# Altium schematic symbol library MyPCB_Homework.SchLib: 66 symbols
Pins are listed as number, name and electrical type; pins without a type are passive.

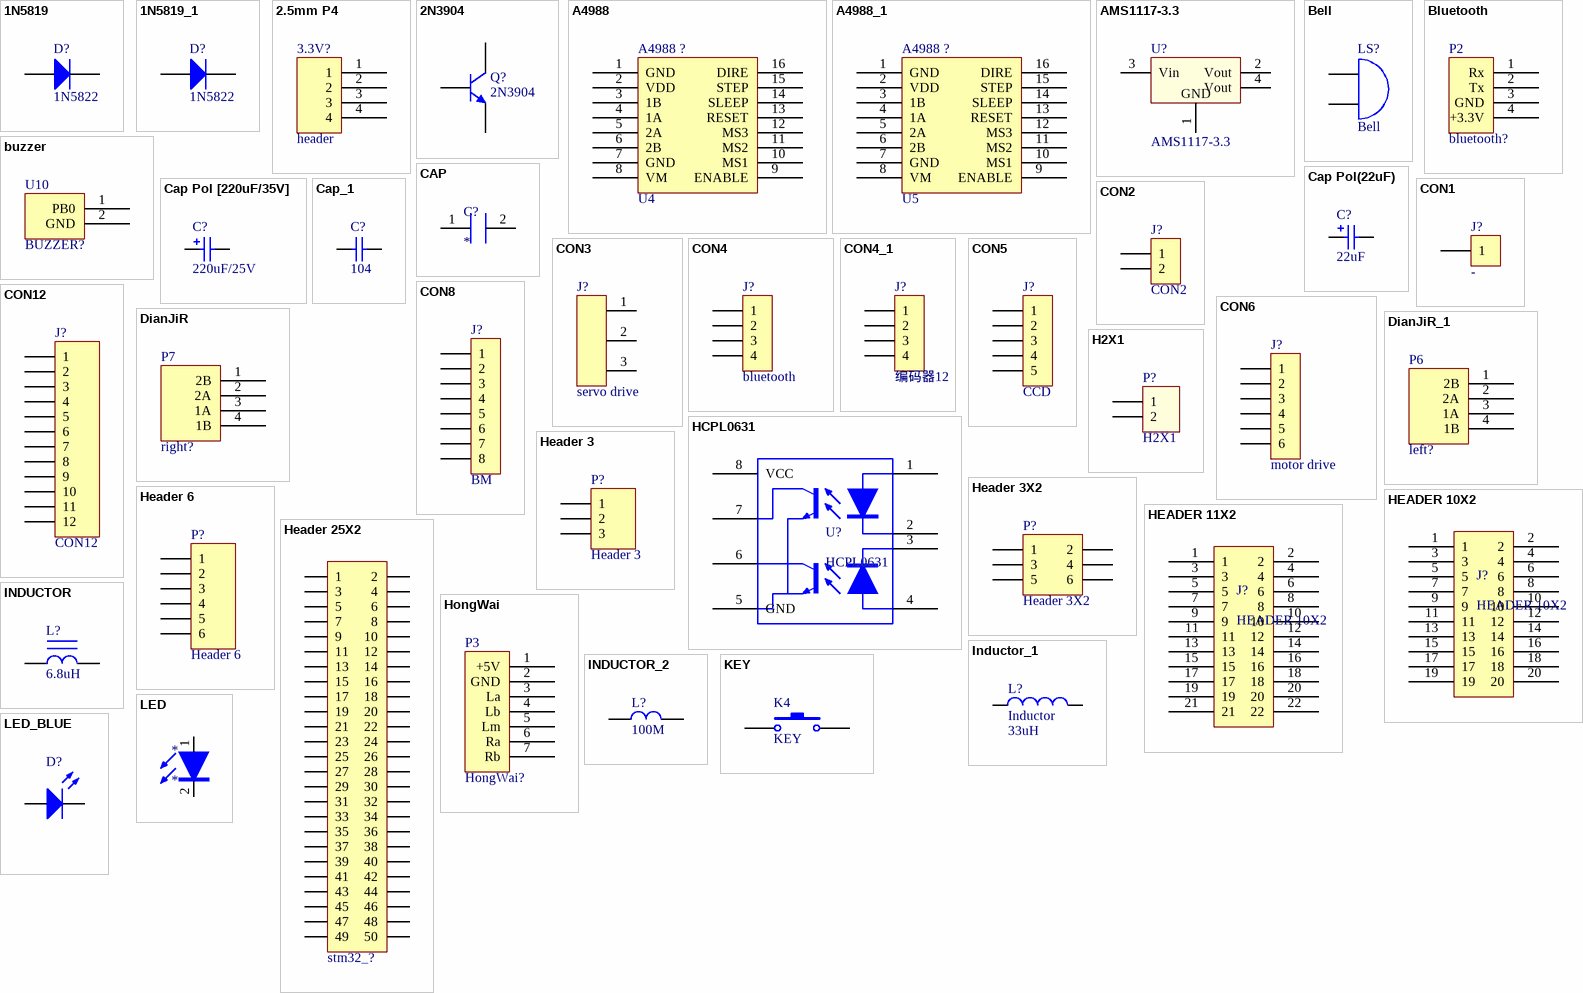
[diagram p0: symbols 1N5819 to LED_BLUE]

## 1N5819
designator D?, comment 1N5822
footprint SS14
footprint Diode
pins: 1, 2

## 1N5819_1
designator D?, comment 1N5822
二极管
footprint SS14
footprint Diode
pins: 1, 2

## 2.5mm P4
designator 3.3V?, comment header
footprint bluetooth
pins: 1, 2, 3, 4

## 2N3904
designator Q?
NPN General Purpose Amplifier; Published: 8-Jun-2000; LatestRevisionDate: 15-Jan-2003; LatestRevisionNote: PCB Footprint 'BCY-W3/D4.7' replaced; DatasheetDocument: 1997; PackageDocument: Sep-1998; PackageReference: TO-92A; Publisher: Altium Limited; Code_JEDEC: TO-92A; ComponentLink1Description: Manufacturer Link; ComponentLink1URL: http://www.fairchildsemi.com/; ComponentLink2Description: Datasheet; ComponentLink2URL: http://www.fairchildsemi.com/ds/2N%2F2N3904.pdf
footprint TO-92A (TO, Flat Index; 3 In-Line, Axial Leads; Body Dia. 4.5mm; Leads 0.51 x 0.48 mm (max))
simulation model 2N3904 (NPN)
signal-integrity model 2N3904
pins: B, C, E

## A4988
designator A4988 ?, comment U4
footprint A4988
pins: 1 GND, 2 VDD, 3 1B, 4 1A, 5 2A, 6 2B, 7 GND, 8 VM, 9 ENABLE, 10 MS1, 11 MS2, 12 MS3, 13 RESET, 14 SLEEP, 15 STEP, 16 DIRE

## A4988_1
designator A4988 ?, comment U5
footprint A4988
pins: 1 GND, 2 VDD, 3 1B, 4 1A, 5 2A, 6 2B, 7 GND, 8 VM, 9 ENABLE, 10 MS1, 11 MS2, 12 MS3, 13 RESET, 14 SLEEP, 15 STEP, 16 DIRE

## AMS1117-3.3
designator U?
footprint SOT-223
pins: 1 GND, 2 Vout, 3 Vin, 4 Vout

## Bell
designator LS?
Electrical Bell; Published: 24-Mar-1999; LatestRevisionDate: 17-Jul-2002; LatestRevisionNote: Re-released for DXP Platform.; PackageReference: PIN2; Publisher: Altium Limited
footprint 蜂鸣器侧装
pins: 1 A, 2 B

## Bluetooth
designator bluetooth?, comment P2
footprint bluetooth
pins: 1 Rx, 2 Tx, 3 GND, 4 +3.3V

## buzzer
designator BUZZER?, comment U10
footprint buzzer
pins: 1 PB0, 2 GND

## CAP
designator C?
电容
pins: 1, 2

## Cap Pol [220uF/35V]
designator C?, comment 220uF/25V
220uF/35V
footprint CAP POL [25V]
pins: 1, 2

## Cap Pol(22uF)
designator C?  (value not drawn)
footprint CAP POL [16V]
footprint CAP[1210]
footprint CAP[1206]
footprint CAP[6332]
footprint CAP[7432]
pins: 1, 2
text: 22uF

## Cap_1
designator C?, comment Cap  (value not drawn)
footprint 0805C
pins: 1, 2
text: 104

## CON1
designator J?, comment -
Connector
footprint 单面焊盘2*3MM_1PIN
footprint 单面焊盘2*3MM_1PIN
footprint 单面焊盘2*3MM_1PIN
pins: 1
2 alternate drawings of the same symbol

## CON2
designator J?
Connector
footprint 2PIN杜邦插座_1.27mm
pins: 1, 2
2 alternate drawings of the same symbol

## CON3
designator J?, comment servo drive
SOCKET
footprint HDR1X3 (Connector; Header; 3 Position)
pins: 1, 2, 3

## CON4
designator J?, comment bluetooth
Connector
footprint HDR1X4 (Connector; Header; 4 Position)
pins: 1, 2, 3, 4
2 alternate drawings of the same symbol

## CON4_1
designator J?, comment 编码器12
Connector
footprint SIP4
footprint XH2.54-4P
footprint XH2.54-4P - tiepian
pins: 1, 2, 3, 4

## CON5
designator J?, comment CCD
Connector
footprint HDR1X5 (Connector; Header; 5 Position)
pins: 1, 2, 3, 4, 5
2 alternate drawings of the same symbol

## CON6
designator J?, comment motor drive
Connector
footprint HDR2X3 (Connector; Header; 3x2 Position)
pins: 1, 2, 3, 4, 5, 6
2 alternate drawings of the same symbol

## CON8
designator J?, comment BM
Connector
footprint HDR2X4 (Connector; Header; 4x2 Position)
pins: 1, 2, 3, 4, 5, 6, 7, 8
2 alternate drawings of the same symbol

## CON12
designator J?
Connector
footprint HDR2X6 (Connector; Header; 6x2 Position)
pins: 1, 2, 3, 4, 5, 6, 7, 8, 9, 10, 11, 12
2 alternate drawings of the same symbol

## DianJiR
designator right?, comment P7
footprint dianji
pins: 1 2B, 2 2A, 3 1A, 4 1B

## DianJiR_1
designator left?, comment P6
footprint dianji
pins: 1 2B, 2 2A, 3 1A, 4 1B

## H2X1
designator P?
footprint H2.54-1X2
footprint 电源端子
pins: 1, 2

## HCPL0631
designator U?
光耦
pins: 1, 2, 3, 4, 5 GND, 6, 7, 8 VCC

## Header 3
designator P?
Header, 3-Pin; LatestRevisionDate: 17-Jul-2002; LatestRevisionNote: Re-released for DXP Platform.; Publisher: Altium Limited
footprint HDR1X3 (Connector; Header; 3 Position)
signal-integrity model Connector
pins: 1, 2, 3

## Header 3X2
designator P?
Header, 3-Pin, Dual row; LatestRevisionDate: 17-Jul-2002; LatestRevisionNote: Re-released for DXP Platform.; Publisher: Altium Limited
footprint HDR2X3 (Connector; Header; 3x2 Position)
signal-integrity model Connector
pins: 1, 2, 3, 4, 5, 6

## Header 6
designator P?
Header, 6-Pin; LatestRevisionDate: 17-Jul-2002; LatestRevisionNote: Re-released for DXP Platform.; Publisher: Altium Limited
footprint HDR1X6 (Connector; Header; 6 Position)
signal-integrity model Connector
pins: 1, 2, 3, 4, 5, 6

## HEADER 10X2
designator J?
排针
pins: 1, 2, 3, 4, 5, 6, 7, 8, 9, 10, 11, 12, 13, 14, 15, 16, 17, 18, 19, 20

## HEADER 11X2
designator J?, comment HEADER 10X2
排针
pins: 1, 2, 3, 4, 5, 6, 7, 8, 9, 10, 11, 12, 13, 14, 15, 16, 17, 18, 19, 20, 21, 22

## Header 25X2
designator stm32_?, comment Header 2X25  (value not drawn)
25*2P接插件; BOM名称: 20*2P接插件; 版权归属: 源创客; 学习资源: www.ooocke.com
footprint IDC2.54-LI-2x25P (50P简易牛角座)
footprint HDR2.54-LI-2x25P (双排排针，25x2脚)
pins: 1, 2, 3, 4, 5, 6, 7, 8, 9, 10, 11, 12, 13, 14, 15, 16, 17, 18, 19, 20, 21, 22, 23, 24, 25, 26, 27, 28, 29, 30, 31, 32, 33, 34, 35, 36, 37, 38, 39, 40, 41, 42, 43, 44, 45, 46, 47, 48, 49, 50

## HongWai
designator HongWai?, comment P3
footprint HONGWAI
pins: 1 +5V, 2 GND, 3 La, 4 Lb, 5 Lm, 6 Ra, 7 Rb

## INDUCTOR
designator L?, comment 6.8uH
电感
footprint 0805_Res
footprint CDRH3D16_4.2*1.8
footprint 3528电感
footprint 0603_Res
footprint CD75_7.8*5mm
footprint CDRH5D28_6*2.8mm
footprint CD32_3.5*3.0*2.3mm
footprint CDRH4D18_5*2MM
pins: 1, 2

## Inductor_1
designator L?, comment Inductor
footprint Inductor_T10uH
footprint INDC1608L (Chip Inductor, Body 1.6x0.8mm, IPC High Density)
footprint L-CD31
footprint L-CD32
footprint L-CD42
footprint L-CD43
footprint L-CD52
footprint L-CD53
footprint L-CD54
footprint L-CD73
footprint L-CD75
footprint L-CD104
pins: 1, 2
text: 33uH

## INDUCTOR_2
designator L?, comment 100M
footprint 0603_Res
footprint 0805_Res
pins: 1, 2

## KEY
designator K4
footprint KEl
pins: 1, 2

## LED
designator *
pins: 1, 2

## LED_BLUE
designator D?
LED_BLUE
footprint 0805LED1
pins: 1 A, 2 K

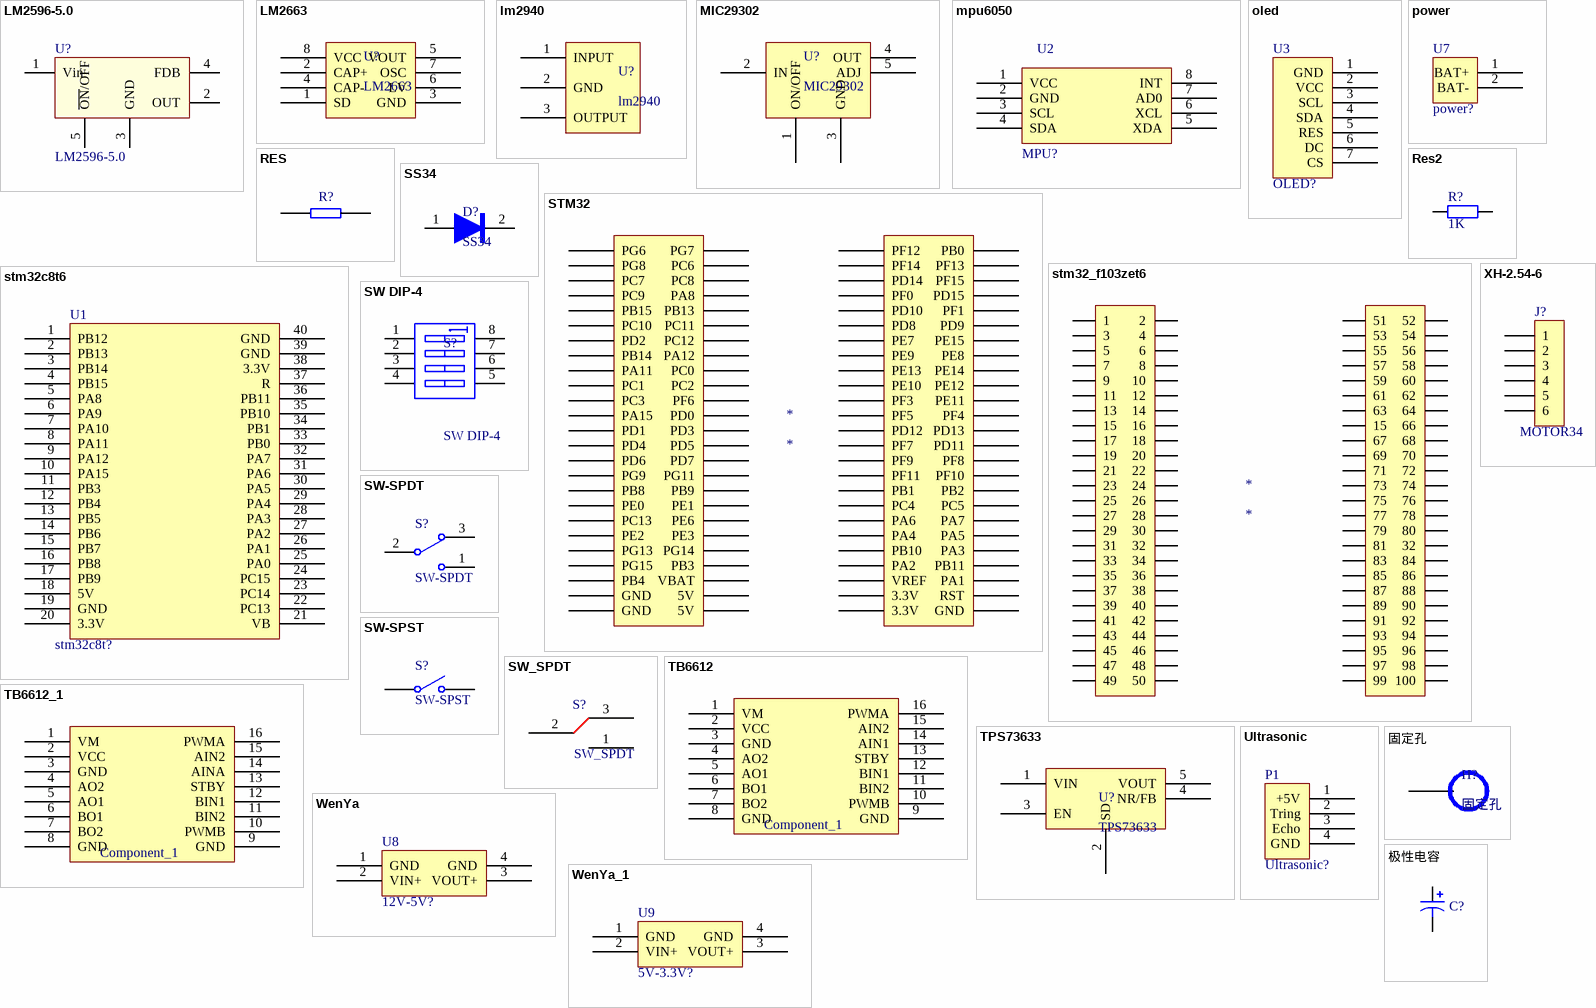
[diagram p1: symbols LM2596-5.0 to 极性电容]

## LM2596-5.0
designator U?
IC
footprint TO-263-5
pins: 1 Vin, 2 OUT, 3 GND, 4 FDB, 5 ~{ON}/OFF

## LM2663
designator U?
IC
pins: 1 SD, 2 CAP+, 3 GND, 4 CAP-, 5 VOUT, 6 LV, 7 OSC, 8 VCC

## lm2940
designator U?
IC
pins: 1 INPUT, 2 GND, 3 OUTPUT

## MIC29302
designator U?
IC
pins: 1 ON/OFF, 2 IN, 3 GND, 4 OUT, 5 ADJ

## mpu6050
designator MPU?, comment U2
footprint MPU6050
pins: 1 VCC, 2 GND, 3 SCL, 4 SDA, 5 XDA, 6 XCL, 7 AD0, 8 INT

## oled
designator OLED?, comment U3
footprint OLED
pins: 1 GND, 2 VCC, 3 SCL, 4 SDA, 5 RES, 6 DC, 7 CS

## power
designator power?, comment U7
footprint power
pins: 1 BAT+, 2 BAT-

## RES
designator R?
电阻
footprint 0402R (Footprint not found)
pins: 1, 2

## Res2
designator R?  (value not drawn)
footprint RES[0805]
footprint RES[0603]
footprint RES[0402]
pins: 1, 2
text: 1K

## SS34
designator D?
二极管
pins: 1, 2

## STM32
designator *
footprint stm32_fl03zet6
pins: 1 PG6, 2 PG7, 3 PG8, 4 PC6, 5 PC7, 6 PC8, 7 PC9, 8 PA8, 9 PB15, 10 PB13, 11 PC10, 12 PC11, 13 PD2, 14 PC12, 15 PB14, 16 PA12, 17 PA11, 18 PC0, 19 PC1, 20 PC2, 21 PC3, 22 PF6, 23 PA15, 24 PD0, 25 PD1, 26 PD3, 27 PD4, 28 PD5, 29 PD6, 30 PD7, 31 PG9, 32 PG11, 33 PB8, 34 PB9, 35 PE0, 36 PE1, 37 PC13, 38 PE6, 39 PE2, 40 PE3, 41 PG13, 42 PG14, 43 PG15, 44 PB3, 45 PB4, 46 VBAT, 47 GND, 48 5V, 49 GND, 50 5V, 51 PF12, 52 PB0, 53 PF14, 54 PF13, 55 PD14, 56 PF15, 57 PF0, 58 PD15, 59 PD10, 60 PF1, 61 PD8, 62 PD9, 63 PE7, 64 PE15, 65 PE9, 66 PE8, 67 PE13, 68 PE14, 69 PE10, 70 PE12, 71 PF3, 72 PE11, 73 PF5, 74 PF4, 75 PD12, 76 PD13, 77 PF7, 78 PD11, 79 PF9, 80 PF8, 81 PF11, 82 PF10, 83 PB1, 84 PB2, 85 PC4, 86 PC5, 87 PA6, 88 PA7, 89 PA4, 90 PA5, 91 PB10, 92 PA3, 93 PA2, 94 PB11, 95 VREF, 96 PA1, 97 3.3V, 98 RST, 99 3.3V, 100 GND

## stm32_f103zet6
designator *
pins: 1 51, 2, 2 52, 3, 3 53, 4, 4 54, 5, 5 55, 6, 6 56, 7, 7 57, 8, 8 58, 9, 9 59, 10, 10 60, 11, 11 61, 12, 12 62, 13, 13 63, 14, 14 64, 15, 15, 16, 16 66, 17, 17 67, 18, 18 68, 19, 19 69, 20, 20 70, 21, 21 71, 22, 22 72, 23, 23 73, 24, 24 74, 25, 25 75, 26, 26 76, 27, 27 77, 28, 28 78, 29, 29 79, 30, 30 80, 31, 31 81, 32, 32, 33, 33 83, 34, 34 84, 35, 35 85, 36, 36 86, 37, 37 87, 38, 38 88, 39, 39 89, 40, 40 90, 41, 41 91, 42, 42 92, 43, 43 93, 44, 44 94, 45, 45 95, 46, 46 96, 47, 47 97, 48, 48 98, 49, 49 99, 50, 50 100, PG6 1

## stm32c8t6
designator stm32c8t?, comment U1
footprint stm32c8t6
pins: 1 PB12, 2 PB13, 3 PB14, 4 PB15, 5 PA8, 6 PA9, 7 PA10, 8 PA11, 9 PA12, 10 PA15, 11 PB3, 12 PB4, 13 PB5, 14 PB6, 15 PB7, 16 PB8, 17 PB9, 18 5V, 19 GND, 20 3.3V, 21 VB, 22 PC13, 23 PC14, 24 PC15, 25 PA0, 26 PA1, 27 PA2, 28 PA3, 29 PA4, 30 PA5, 31 PA6, 32 PA7, 33 PB0, 34 PB1, 35 PB10, 36 PB11, 37 R, 38 3.3V, 39 GND, 40 GND

## SW DIP-4
designator S?
DIP Switch
footprint 4路拨码开关
pins: 1 A1, 2 A2, 3 A3, 4 A4, 5 B4, 6 B3, 7 B2, 8 B1
2 alternate drawings of the same symbol

## SW-SPDT
designator S?
SPDT Subminiature Toggle Switch, Right Angle Mounting, Vertical Actuation; Published: 24-Mar-1999; LatestRevisionDate: 17-Dec-2003; LatestRevisionNote: Schematic revised, PCB Footprint replaced.; DatasheetVersion: 05-Dec-2000; PackageReference: TL36WW15050; Publisher: Altium Limited; PackageDescription: Switch; 4 Leads; ComponentLink1Description: Manufacturer Link; ComponentLink1URL: http://www.apem.com
footprint key
pins: 1, 2, 3

## SW-SPST
designator S?
Single-Pole, Single-Throw Switch; Published: 24-Mar-1999; LatestRevisionDate: 17-Jul-2002; LatestRevisionNote: Re-released for DXP Platform.; PackageReference: SPST-2; Publisher: Altium Limited; PackageDescription: Switch; 2 Leads
footprint SPST-2 (Switch; 2 Leads)
footprint 开关
pins: 1 COMMON, 2 NO

## SW_SPDT
designator S?
footprint SW-PD2
footprint SW-PD(CHANG)
pins: 1, 2, 3

## TB6612
designator TB?, comment Component_1
footprint TB6612FNG
pins: 1 VM, 2 VCC, 3 GND, 4 AO2, 5 AO1, 6 BO1, 7 BO2, 8 GND, 9 GND, 10 PWMB, 11 BIN2, 12 BIN1, 13 STBY, 14 AIN1, 15 AIN2, 16 PWMA

## TB6612_1
designator TB?, comment Component_1
footprint TB6612FNG
pins: 1 VM, 2 VCC, 3 GND, 4 AO2, 5 AO1, 6 BO1, 7 BO2, 8 GND, 9 GND, 10 PWMB, 11 BIN2, 12 BIN1, 13 STBY, 14 AINA, 15 AIN2, 16 PWMA

## TPS73633
designator U?
IC
pins: 1 VIN, 2 SD, 3 EN, 4 NR/FB, 5 VOUT

## Ultrasonic
designator Ultrasonic?, comment P1
footprint bluetooth
pins: 1 +5V, 2 Tring, 3 Echo, 4 GND

## WenYa
designator 12V-5V?, comment U8
footprint wenya
pins: 1 GND, 2 VIN+, 3 VOUT+, 4 GND

## WenYa_1
designator 5V-3.3V?, comment U9
footprint wenya
pins: 1 GND, 2 VIN+, 3 VOUT+, 4 GND

## XH-2.54-6
designator J?, comment MOTOR34
Connector
footprint XH2.54-6P
pins: 1, 2, 3, 4, 5, 6

## 固定孔
designator H?
footprint 铜柱孔3
pins: 11

## 极性电容
designator C?
极性电容
footprint B型钽电容_3528_21 (Molded Capacitor, 2-Leads, Body 3.5x2.8mm, IPC Medium Density)
pins: 1, 2